# EAGLE library part CD40109B (library lichtenstein_onion)
Automotive catalog CMOS Quad Low-to-High Voltage Level Shifter (20V Rating) Datasheet <http://www.ti.com/lit/ds/symlink/cd40109b-q1.pdf>
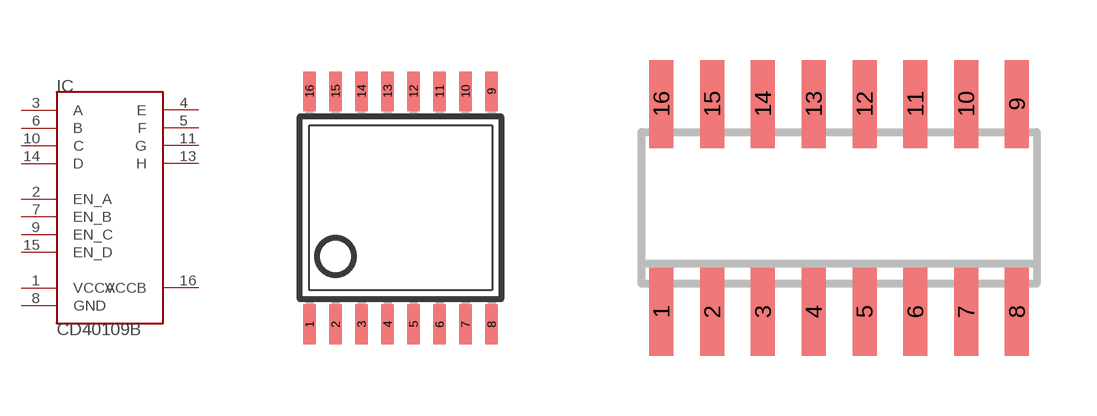
[diagram p25: symbol with the pads of TSSOP16; footprints TSSOP16, SO16]

Designator prefix IC

## CD40109BTSSOP-16 (MOUSER: 595-CD40109BPWR)  [TSSOP16]
1  VCCA
2  EN_A
3  A
4  E
5  F
6  B
7  EN_B
8  GND
9  EN_C
10  C
11  G
13  H
14  D
15  EN_D
16  VCCB

## CD40109BSO-16 (MOUSER: 595-CD40109BNSR)  [SO16]
Pads as for TSSOP16

## Footprint TSSOP16 (pad centres in mm)
Thin Shrink Small Outline Plastic 16 MAX3223-MAX3243.pdf
smd 0.305 x 0.991: 1 -2.275,-2.918; 2 -1.625,-2.918; 3 -0.975,-2.918; 4 -0.325,-2.918; 5 0.325,-2.918; 6 0.975,-2.918; 7 1.625,-2.918; 8 2.275,-2.918; 9 2.275,2.918; 10 1.625,2.918; 11 0.975,2.918; 12 0.325,2.918; 13 -0.325,2.918; 14 -0.975,2.918; 15 -1.625,2.918; 16 -2.275,2.918

## Footprint SO16 (pad centres in mm)
SMALL OUTLINE INTEGRATED CIRCUIT body 3.9 mm/JEDEC MS-012AC
smd 0.6 x 2.2: 1 -4.445,-2.6; 2 -3.175,-2.6; 3 -1.905,-2.6; 4 -0.635,-2.6; 5 0.635,-2.6; 6 1.905,-2.6; 7 3.175,-2.6; 8 4.445,-2.6; 9 4.445,2.6; 10 3.175,2.6; 11 1.905,2.6; 12 0.635,2.6; 13 -0.635,2.6; 14 -1.905,2.6; 15 -3.175,2.6; 16 -4.445,2.6